# EAGLE library part 691101810008 (library Wurth_Connectors_WR-TBL Wire Protector)
WR-TBL Series 1018 - 10.00 mm Modular Horizontal Cable Entry - THT KIND PROPERTIES Pitch 10 mm MATERIAL PROPERTIES Insulator Material PA66 Insulator Flammability Rating UL94 V-0 Insulator Color Blue Terminal Screw Material Steel Terminal Screw Plating Zinc Wire Guard Material Stainless Steel GENERAL INFORMATION Operating Temperature -40 up to +105 °C ELECTRICAL PROPERTIES IR UL 16 A IR VDE 16 A Working Voltage [UL] 250 V Working Voltage [VDE] 250 V Withstanding Voltage [UL] 1500 V Withstanding Voltage [VDE] 2000 V Contact Resistance [UL] 20 mΩ Contact Resistance [VDE] 20 mΩ MECHANICAL PROPERTIES Wire Strip Length 6 up to 7 (mm) Screw M3 CERTIFICATION UL Approval E315414 VDE Approval 40022614 PACKAGING PROPERTIES Packaging Box <https://www.we-online.com/catalog/media/o678601v209%20family-wr-tbl-6911018100xx.jpg> Details see: https://www.we-online.com/catalog/en/WR_TBL_SERIES_1018_10_MM_MODULAR_HORIZONTAL_THT Created by Ella Wu 2022-04-07 2022(C) Wurth Elektronik
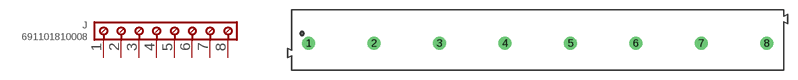
[diagram p1: symbol with the pads of 691101810008; footprint 691101810008]

Designator prefix J

## 691101810008 (DATASHEET-URL: https://www.we-online.com/catalog/datasheet/691101810008.pdf; IR-UL: 16A; IR-VDE: 16A; MOUNT: THT; PART-NUMBER: 691101810008; PINS: 8; PITCH: 10mm; TYPE: Horizontal Cable Entry; VALUE: 691101810008; WORKING-VOLTAGE-UL: 250V(AC); WORKING-VOLTAGE-VDE: 250V(AC))  [691101810008]
1  1  pas
2  2  pas
3  3  pas
4  4  pas
5  5  pas
6  6  pas
7  7  pas
8  8  pas

## Footprint 691101810008 (pad centres in mm)
WR-TBL Series 1018 - 10.00 mm Modular Horizontal Cable Entry - THT Max Height = 12.6mm , Pitch 10mm , 8 Pins
drill 1.3: 1 -35,0; 2 -25,0; 3 -15,0; 4 -5,0; 5 5,0; 6 15,0; 7 25,0; 8 35,0